# Altium footprint library NORA-B106.PcbLib: 1 footprints
Each footprint in its own frame and in the unit in brackets; x right, y up, seen from the top. Pads: shape width x height; smd on the part's side, far side on the other; paste and mask are expansions set on the pad; w line width, h text height; cw(c..) or ccw(c..) is an arc to the next point about the centre after c.
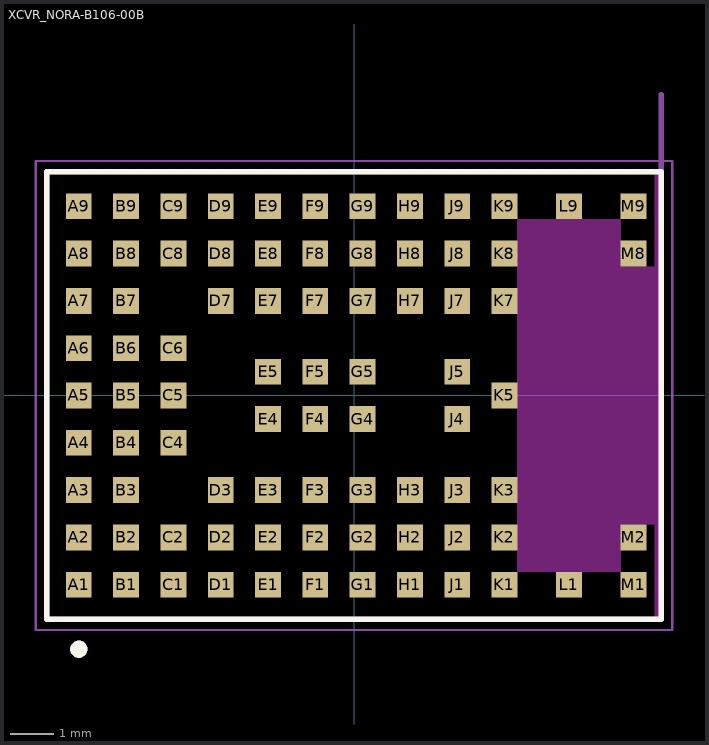
[diagram p0: the footprint, top view; thin cyan lines are the x and y axes]

## XCVR_NORA-B106-00B [mm]
height 1.8
pads (82):
  rect 0.6x0.6 smd paste+0 mask+0.102: A1(-6.4,-4.4) A2(-6.4,-3.3) A3(-6.4,-2.2) A4(-6.4,-1.1) A5(-6.4,0) A6(-6.4,1.1) A7(-6.4,2.2) A8(-6.4,3.3) A9(-6.4,4.4) B1(-5.3,-4.4) B2(-5.3,-3.3) B3(-5.3,-2.2) B4(-5.3,-1.1) B5(-5.3,0) B6(-5.3,1.1) B7(-5.3,2.2) B8(-5.3,3.3) B9(-5.3,4.4) C1(-4.2,-4.4) C2(-4.2,-3.3) C4(-4.2,-1.1) C5(-4.2,0) C6(-4.2,1.1) C8(-4.2,3.3) C9(-4.2,4.4) D1(-3.1,-4.4) D2(-3.1,-3.3) D3(-3.1,-2.2) D7(-3.1,2.2) D8(-3.1,3.3) D9(-3.1,4.4) E1(-2,-4.4) E2(-2,-3.3) E3(-2,-2.2) E4(-2,-0.55) E5(-2,0.55) E7(-2,2.2) E8(-2,3.3) E9(-2,4.4) F1(-0.9,-4.4) F2(-0.9,-3.3) F3(-0.9,-2.2) F4(-0.9,-0.55) F5(-0.9,0.55) F7(-0.9,2.2) F8(-0.9,3.3) F9(-0.9,4.4) G1(0.2,-4.4) G2(0.2,-3.3) G3(0.2,-2.2) G4(0.2,-0.55) G5(0.2,0.55) G7(0.2,2.2) G8(0.2,3.3) G9(0.2,4.4) H1(1.3,-4.4) H2(1.3,-3.3) H3(1.3,-2.2) H7(1.3,2.2) H8(1.3,3.3) H9(1.3,4.4) J1(2.4,-4.4) J2(2.4,-3.3) J3(2.4,-2.2) J4(2.4,-0.55) J5(2.4,0.55) J7(2.4,2.2) J8(2.4,3.3) J9(2.4,4.4) K1(3.5,-4.4) K2(3.5,-3.3) K3(3.5,-2.2) K5(3.5,0) K7(3.5,2.2) K8(3.5,3.3) K9(3.5,4.4) L1(5,-4.4) L9(5,4.4) M1(6.5,-4.4) M2(6.5,-3.3) M8(6.5,3.3) M9(6.5,4.4)
Top Overlay:
  circle w0.2: c-6.4,-5.9 r0.1
  lines w0.127: -7.15,-5.2 7.15,-5.2 7.15,5.2 -7.15,5.2 -7.15,-5.2
Keep-Out Layer:
  region: 7.15,-5.2 7,-5.2 7,-3 6.2,-3 6.2,-4.1 3.8,-4.1 3.8,4.1 6.2,4.1 6.2,3 7,3 7,5.2 7.15,5.2
  region: 7.15,-5.2 7,-5.2 7,-3 6.2,-3 6.2,-4.1 3.8,-4.1 3.8,4.1 6.2,4.1 6.2,3 7,3 7,5.2 7.15,5.2
Assembly Top:
  circle w0.2: c-6.4,-5.9 r0.1
  lines w0.127: 7.15,7 7.15,5.2 ; 7.15,5.2 7.15,-5.2 -7.15,-5.2 -7.15,5.2 7.15,5.2
  text "PCB Edge" at 6.85,6 h0.61
Courtyard Top:
  lines w0.05: -7.4,-5.45 7.4,-5.45 7.4,5.45 -7.4,5.45 -7.4,-5.45
3D body "step_temp.STEP": height 1.8, standoff 0, extent -7.15,-5.2 7.15,5.2